# EAGLE library part ARDUINO_MEGA (library FlashPCB_DevBoards)
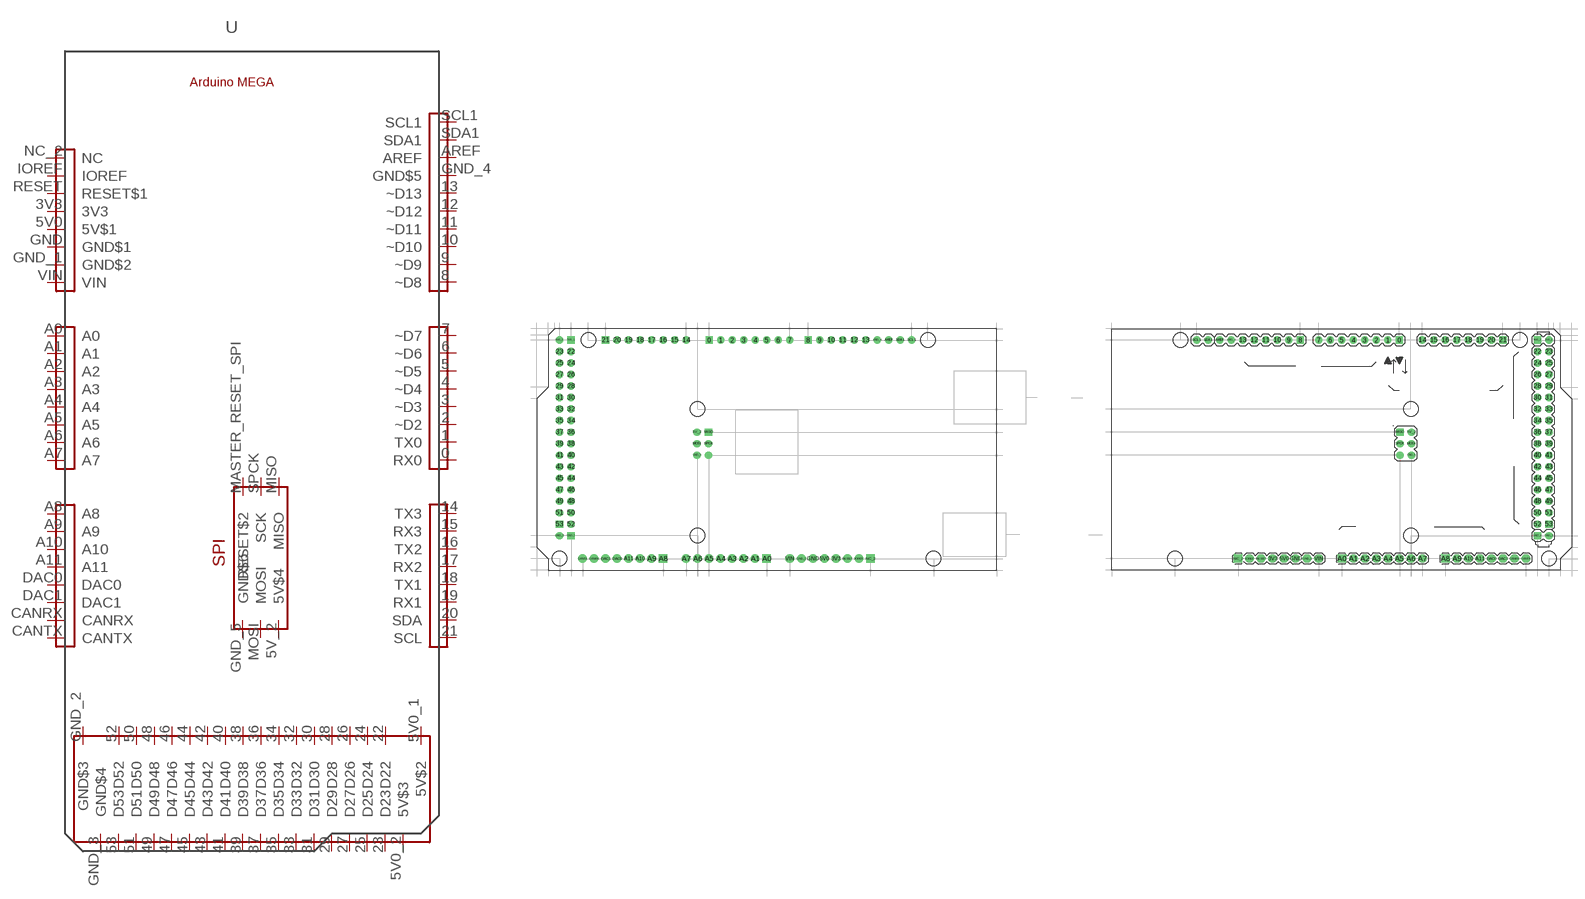
[diagram p3: symbol with the pads of ARDUINO_MEGA; footprints ARDUINO_MEGA, ARDUINO_MEGA_SHIELD]

Designator prefix U

## ARDUINO_MEGAARDUINO_MEGA  [ARDUINO_MEGA]
0  RX0
1  TX0
2  ~D2
3  ~D3
3V3  3V3
4  ~D4
5  ~D5
5V0  5V$1
5V0_1  5V$2
5V0_2  5V$3
5V_2  5V$4
6  ~D6
7  ~D7
8  ~D8
9  ~D9
10  ~D10
11  ~D11
12  ~D12
13  ~D13
14  TX3
15  RX3
16  TX2
17  RX2
18  TX1
19  RX1
20  SDA
21  SCL
22  D22
23  D23
24  D24
25  D25
26  D26
27  D27
28  D28
29  D29
30  D30
31  D31
32  D32
33  D33
34  D34
35  D35
36  D36
37  D37
38  D38
39  D39
40  D40
41  D41
42  D42
43  D43
44  D44
45  D45
46  D46
47  D47
48  D48
49  D49
50  D50
51  D51
52  D52
53  D53
A0  A0
A1  A1
A2  A2
A3  A3
A4  A4
A5  A5
A6  A6
A7  A7
A8  A8
A9  A9
A10  A10
A11  A11
AREF  AREF
CANRX  CANRX
CANTX  CANTX
DAC0  DAC0
DAC1  DAC1
GND  GND$1
GND_1  GND$2
GND_2  GND$3
GND_3  GND$4
GND_4  GND$5
GND_5  GND$6
IOREF  IOREF
MASTER_RESET_SPI  RESET$2
MISO  MISO
MOSI  MOSI
NC_2  NC
RESET  RESET$1
SCL1  SCL1
SDA1  SDA1
SPCK  SCK
VIN  VIN

## ARDUINO_MEGAARDUINO_MEGA_SHIELD  [ARDUINO_MEGA_SHIELD]
Pads as for ARDUINO_MEGA

## Footprint ARDUINO_MEGA (pad centres in mm)
kitID='6345d01949babf92f296248c'
drill 1.067 square: 0 -63.5,50.8; 5V0_1 -93.98,50.8; 8 -41.656,50.8; 21 -86.36,50.8; 53 -96.52,10.16; GND_2 -93.98,7.62; MISO -63.627,30.48
drill 1.067: 1 -60.96,50.8; 2 -58.42,50.8; 3 -55.88,50.8; 4 -53.34,50.8; 5 -50.8,50.8; 5V0_2 -96.52,50.8; 5V_2 -66.167,30.48; 6 -48.26,50.8; 7 -45.72,50.8; 9 -39.116,50.8; 10 -36.576,50.8; 11 -34.036,50.8; 12 -31.496,50.8; 13 -28.956,50.8; 14 -68.58,50.8; 15 -71.12,50.8; 16 -73.66,50.8; 17 -76.2,50.8; 18 -78.74,50.8; 19 -81.28,50.8; 20 -83.82,50.8; 22 -93.98,48.26; 23 -96.52,48.26; 24 -93.98,45.72; 25 -96.52,45.72; 26 -93.98,43.18; 27 -96.52,43.18; 28 -93.98,40.64; 29 -96.52,40.64; 30 -93.98,38.1; 31 -96.52,38.1; 32 -93.98,35.56; 33 -96.52,35.56; 34 -93.98,33.02; 35 -96.52,33.02; 36 -93.98,30.48; 37 -96.52,30.48; 38 -93.98,27.94; 39 -96.52,27.94; 40 -93.98,25.4; 41 -96.52,25.4; 42 -93.98,22.86; 43 -96.52,22.86; 44 -93.98,20.32; 45 -96.52,20.32; 46 -93.98,17.78; 47 -96.52,17.78; 48 -93.98,15.24; 49 -96.52,15.24; 50 -93.98,12.7; 51 -96.52,12.7; 52 -93.98,10.16; AREF -23.876,50.8; GND_3 -96.52,7.62; GND_4 -26.416,50.8; GND_5 -66.167,25.4; MASTER_RESET_SPI -63.627,25.4; MOSI -66.167,27.94; SCL1 -18.796,50.8; SDA1 -21.336,50.8; SPCK -63.627,27.94
drill 1.016 pad 1.88: 3V3 -35.56,2.54; 5V0 -38.1,2.54; A1 -53.34,2.54; A2 -55.88,2.54; A3 -58.42,2.54; A4 -60.96,2.54; A5 -63.5,2.54; A6 -66.04,2.54; A7 -68.58,2.54; A9 -76.2,2.54; A10 -78.74,2.54; A11 -81.28,2.54; CANRX -88.9,2.54; CANTX -91.44,2.54; DAC0 -83.82,2.54; DAC1 -86.36,2.54; GND -40.64,2.54; GND_1 -43.18,2.54; IOREF -30.48,2.54; RESET -33.02,2.54; VIN -45.72,2.54
drill 1.016 pad 1.88 square: A0 -50.8,2.54; A8 -73.66,2.54; NC_2 -27.94,2.54
hole 3.2 at -96.52,2.54
hole 3.2 at -90.17,50.8
hole 3.2 at -13.97,2.54
hole 3.2 at -66.04,35.56
hole 3.2 at -66.04,7.62
hole 3.2 at -15.24,50.8

## Footprint ARDUINO_MEGA_SHIELD (pad centres in mm)
kitID='6345d01849babf92f296248a'
drill 1.067 square: 0 63.5,50.8; 5V0_1 93.98,50.8; 8 41.656,50.8; 21 86.36,50.8; 53 96.52,10.16; GND_2 93.98,7.62; MISO 63.627,30.48
drill 1.067: 1 60.96,50.8; 2 58.42,50.8; 3 55.88,50.8; 4 53.34,50.8; 5 50.8,50.8; 5V0_2 96.52,50.8; 5V_2 66.167,30.48; 6 48.26,50.8; 7 45.72,50.8; 9 39.116,50.8; 10 36.576,50.8; 11 34.036,50.8; 12 31.496,50.8; 13 28.956,50.8; 14 68.58,50.8; 15 71.12,50.8; 16 73.66,50.8; 17 76.2,50.8; 18 78.74,50.8; 19 81.28,50.8; 20 83.82,50.8; 22 93.98,48.26; 23 96.52,48.26; 24 93.98,45.72; 25 96.52,45.72; 26 93.98,43.18; 27 96.52,43.18; 28 93.98,40.64; 29 96.52,40.64; 30 93.98,38.1; 31 96.52,38.1; 32 93.98,35.56; 33 96.52,35.56; 34 93.98,33.02; 35 96.52,33.02; 36 93.98,30.48; 37 96.52,30.48; 38 93.98,27.94; 39 96.52,27.94; 40 93.98,25.4; 41 96.52,25.4; 42 93.98,22.86; 43 96.52,22.86; 44 93.98,20.32; 45 96.52,20.32; 46 93.98,17.78; 47 96.52,17.78; 48 93.98,15.24; 49 96.52,15.24; 50 93.98,12.7; 51 96.52,12.7; 52 93.98,10.16; AREF 23.876,50.8; GND_3 96.52,7.62; GND_4 26.416,50.8; GND_5 66.167,25.4; MASTER_RESET_SPI 63.627,25.4; MOSI 66.167,27.94; SCL1 18.796,50.8; SDA1 21.336,50.8; SPCK 63.627,27.94
drill 1.016 pad 1.88: 3V3 35.56,2.54; 5V0 38.1,2.54; A1 53.34,2.54; A2 55.88,2.54; A3 58.42,2.54; A4 60.96,2.54; A5 63.5,2.54; A6 66.04,2.54; A7 68.58,2.54; A9 76.2,2.54; A10 78.74,2.54; A11 81.28,2.54; CANRX 88.9,2.54; CANTX 91.44,2.54; DAC0 83.82,2.54; DAC1 86.36,2.54; GND 40.64,2.54; GND_1 43.18,2.54; IOREF 30.48,2.54; RESET 33.02,2.54; VIN 45.72,2.54
drill 1.016 pad 1.88 square: A0 50.8,2.54; A8 73.66,2.54; NC_2 27.94,2.54
hole 3.2 at 96.52,2.54
hole 3.2 at 90.17,50.8
hole 3.2 at 13.97,2.54
hole 3.2 at 66.04,35.56
hole 3.2 at 66.04,7.62
hole 3.2 at 15.24,50.8